# EAGLE library part SWITCH_2 (library 0_my_parts)
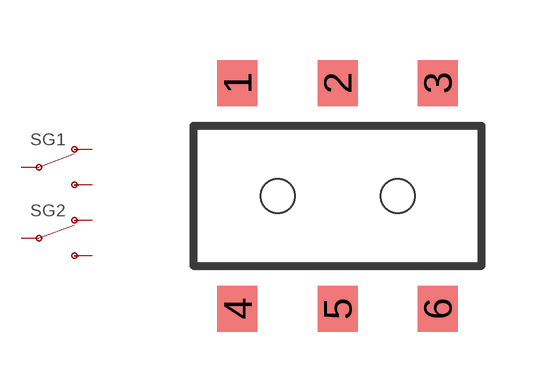
[diagram p4: symbol with the pads of SWITCH; footprint SWITCH]

Designator prefix S; gates G1=TOGGLE G2=TOGGLE

## SWITCH_2  [SWITCH]
1  G1:O  pas
2  G1:P  pas
3  G1:S  pas
4  G2:O  pas
5  G2:P  pas
6  G2:S  pas

## Footprint SWITCH (pad centres in mm)
ITT Industries AYZ0202 DPDT Switch - SMD Double-pole, double-throw switches. Datasheet <https://www.sparkfun.com/datasheets/Components/SW_slide_ayz.pdf>
smd 1 x 1.15: 1 -2.5,2.825; 2 0,2.825; 3 2.5,2.825; 4 -2.5,-2.825; 5 0,-2.825; 6 2.5,-2.825
hole 0.85 at 1.5,0
hole 0.85 at -1.5,0